# Altium footprint library CQFP_Sq_127P_Side_L.PcbLib: 8 footprints
Each footprint in its own frame and in the unit in brackets; x right, y up, seen from the top. Pads: shape width x height; smd on the part's side, far side on the other; paste and mask are expansions set on the pad; w line width, h text height; cw(c..) or ccw(c..) is an arc to the next point about the centre after c.
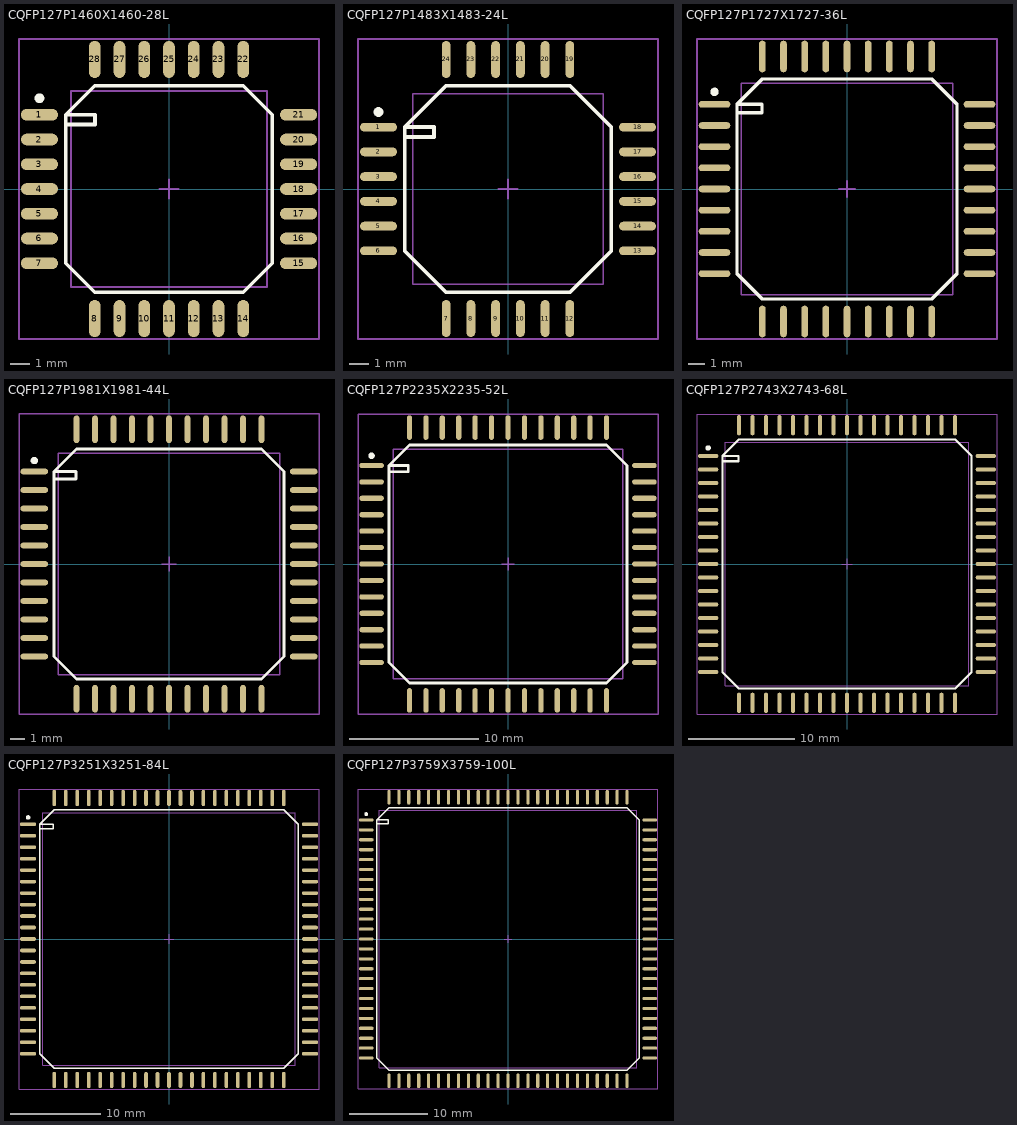
[diagram p0: the footprints below, top view; thin cyan lines are the x and y axes]

## CQFP127P1460X1460-28L [mm] "CQFP, 28-Leads, Body 10x10mm; Pitch 1.27mm, Gullwing Leadform, IPC High Density"
height 2.3
pads (28):
  oval 1.9x0.6 smd: 1(-6.65,3.81) 2(-6.65,2.54) 3(-6.65,1.27) 4(-6.65,0) 5(-6.65,-1.27) 6(-6.65,-2.54) 7(-6.65,-3.81) 15(6.65,-3.81) 16(6.65,-2.54) 17(6.65,-1.27) 18(6.65,0) 19(6.65,1.27) 20(6.65,2.54) 21(6.65,3.81)
  oval 0.6x1.9 smd: 8(-3.81,-6.65) 9(-2.54,-6.65) 10(-1.27,-6.65) 11(0,-6.65) 12(1.27,-6.65) 13(2.54,-6.65) 14(3.81,-6.65) 22(3.81,6.65) 23(2.54,6.65) 24(1.27,6.65) 25(0,6.65) 26(-1.27,6.65) 27(-2.54,6.65) 28(-3.81,6.65)
Top Overlay:
  circle w0.25: c-6.65,4.66 r0.125
  lines w0.2: -5.3,3.31 -3.8,3.31 -3.8,3.81 -5.3,3.81 ; -5.3,3.81 -3.81,5.3 3.81,5.3 5.3,3.81 5.3,-3.81 3.81,-5.3 -3.81,-5.3 -5.3,-3.81 -5.3,3.81
Mechanical 13:
  lines w0.1: -5.025,-5.025 5.025,-5.025 5.025,5.025 -5.025,5.025 -5.025,-5.025
Mechanical 15:
  lines w0.1: -0.5,0 0.5,0 ; 0,-0.5 0,0.5 ; -7.7,-7.7 7.7,-7.7 7.7,7.7 -7.7,7.7 -7.7,-7.7
3D body: height 2.3, standoff 0, extent -5.025,-5.025 5.025,5.025

## CQFP127P1483X1483-24L [mm] "CQFP, 24-Leads, Body 10x10mm; Pitch 1.27mm, Gullwing Leadform, IPC High Density"
height 2.2
pads (24):
  oval 1.9x0.45 smd: 1(-6.65,3.175) 2(-6.65,1.905) 3(-6.65,0.635) 4(-6.65,-0.635) 5(-6.65,-1.905) 6(-6.65,-3.175) 13(6.65,-3.175) 14(6.65,-1.905) 15(6.65,-0.635) 16(6.65,0.635) 17(6.65,1.905) 18(6.65,3.175)
  oval 0.45x1.9 smd: 7(-3.175,-6.65) 8(-1.905,-6.65) 9(-0.635,-6.65) 10(0.635,-6.65) 11(1.905,-6.65) 12(3.175,-6.65) 19(3.175,6.65) 20(1.905,6.65) 21(0.635,6.65) 22(-0.635,6.65) 23(-1.905,6.65) 24(-3.175,6.65)
Top Overlay:
  circle w0.25: c-6.65,3.95 r0.125
  lines w0.2: -5.3,2.675 -3.8,2.675 -3.8,3.175 -5.3,3.175 ; -5.3,3.175 -5.3,-3.175 -3.175,-5.3 3.175,-5.3 5.3,-3.175 5.3,3.175 3.175,5.3 -3.175,5.3 -5.3,3.175
Mechanical 13:
  lines w0.1: -4.89,-4.89 -4.89,4.89 4.89,4.89 4.89,-4.89 -4.89,-4.89
Mechanical 15:
  lines w0.1: -0.5,0 0.5,0 ; 0,-0.5 0,0.5 ; -7.7,-7.7 -7.7,7.7 7.7,7.7 7.7,-7.7 -7.7,-7.7
3D body: height 2.2, standoff 0, extent -4.89,-4.89 4.89,4.89

## CQFP127P1727X1727-36L [mm] "CQFP, 36-Leads, Body 12x12mm; Pitch 1.27mm, Gullwing Leadform, IPC High Density"
height 5
pads (36):
  oval 1.9x0.4 smd: 1(-7.95,5.08) 2(-7.95,3.81) 3(-7.95,2.54) 4(-7.95,1.27) 5(-7.95,0) 6(-7.95,-1.27) 7(-7.95,-2.54) 8(-7.95,-3.81) 9(-7.95,-5.08) 19(7.95,-5.08) 20(7.95,-3.81) 21(7.95,-2.54) 22(7.95,-1.27) 23(7.95,0) 24(7.95,1.27) 25(7.95,2.54) 26(7.95,3.81) 27(7.95,5.08)
  oval 0.4x1.9 smd: 10(-5.08,-7.95) 11(-3.81,-7.95) 12(-2.54,-7.95) 13(-1.27,-7.95) 14(0,-7.95) 15(1.27,-7.95) 16(2.54,-7.95) 17(3.81,-7.95) 18(5.08,-7.95) 28(5.08,7.95) 29(3.81,7.95) 30(2.54,7.95) 31(1.27,7.95) 32(0,7.95) 33(-1.27,7.95) 34(-2.54,7.95) 35(-3.81,7.95) 36(-5.08,7.95)
Top Overlay:
  circle w0.25: c-7.95,5.83 r0.125
  lines w0.2: -6.6,4.58 -5.1,4.58 -5.1,5.08 -6.6,5.08 ; -6.6,5.08 -5.08,6.6 5.08,6.6 6.6,5.08 6.6,-5.08 5.08,-6.6 -5.08,-6.6 -6.6,-5.08 -6.6,5.08
Mechanical 13:
  lines w0.1: -6.35,-6.35 6.35,-6.35 6.35,6.35 -6.35,6.35 -6.35,-6.35
Mechanical 15:
  lines w0.1: -0.5,0 0.5,0 ; 0,-0.5 0,0.5 ; -9,-9 9,-9 9,9 -9,9 -9,-9
3D body: height 5, standoff 0, extent -6.35,-6.35 6.35,6.35

## CQFP127P1981X1981-44L [mm] "CQFP, 44-Leads, Body 15x15mm; Pitch 1.27mm, Gullwing Leadform, IPC High Density"
height 5
pads (44):
  oval 1.9x0.4 smd: 1(-9.25,6.35) 2(-9.25,5.08) 3(-9.25,3.81) 4(-9.25,2.54) 5(-9.25,1.27) 6(-9.25,0) 7(-9.25,-1.27) 8(-9.25,-2.54) 9(-9.25,-3.81) 10(-9.25,-5.08) 11(-9.25,-6.35) 23(9.25,-6.35) 24(9.25,-5.08) 25(9.25,-3.81) 26(9.25,-2.54) 27(9.25,-1.27) 28(9.25,0) 29(9.25,1.27) 30(9.25,2.54) 31(9.25,3.81) 32(9.25,5.08) 33(9.25,6.35)
  oval 0.4x1.9 smd: 12(-6.35,-9.25) 13(-5.08,-9.25) 14(-3.81,-9.25) 15(-2.54,-9.25) 16(-1.27,-9.25) 17(0,-9.25) 18(1.27,-9.25) 19(2.54,-9.25) 20(3.81,-9.25) 21(5.08,-9.25) 22(6.35,-9.25) 34(6.35,9.25) 35(5.08,9.25) 36(3.81,9.25) 37(2.54,9.25) 38(1.27,9.25) 39(0,9.25) 40(-1.27,9.25) 41(-2.54,9.25) 42(-3.81,9.25) 43(-5.08,9.25) 44(-6.35,9.25)
Top Overlay:
  circle w0.25: c-9.25,7.1 r0.125
  lines w0.2: -7.9,5.85 -6.4,5.85 -6.4,6.35 -7.9,6.35 ; -7.9,6.35 -6.35,7.9 6.35,7.9 7.9,6.35 7.9,-6.35 6.35,-7.9 -6.35,-7.9 -7.9,-6.35 -7.9,6.35
Mechanical 13:
  lines w0.1: -7.62,-7.62 7.62,-7.62 7.62,7.62 -7.62,7.62 -7.62,-7.62
Mechanical 15:
  lines w0.1: -0.5,0 0.5,0 ; 0,-0.5 0,0.5 ; -10.3,-10.3 10.3,-10.3 10.3,10.3 -10.3,10.3 -10.3,-10.3
3D body: height 5, standoff 0, extent -7.62,-7.62 7.62,7.62

## CQFP127P2235X2235-52L [mm] "CQFP, 52-Leads, Body 17x17mm; Pitch 1.27mm, Gullwing Leadform, IPC High Density"
height 5
pads (52):
  oval 1.9x0.4 smd: 1(-10.55,7.62) 2(-10.55,6.35) 3(-10.55,5.08) 4(-10.55,3.81) 5(-10.55,2.54) 6(-10.55,1.27) 7(-10.55,0) 8(-10.55,-1.27) 9(-10.55,-2.54) 10(-10.55,-3.81) 11(-10.55,-5.08) 12(-10.55,-6.35) 13(-10.55,-7.62) 27(10.55,-7.62) 28(10.55,-6.35) 29(10.55,-5.08) 30(10.55,-3.81) 31(10.55,-2.54) 32(10.55,-1.27) 33(10.55,0) 34(10.55,1.27) 35(10.55,2.54) 36(10.55,3.81) 37(10.55,5.08) 38(10.55,6.35) 39(10.55,7.62)
  oval 0.4x1.9 smd: 14(-7.62,-10.55) 15(-6.35,-10.55) 16(-5.08,-10.55) 17(-3.81,-10.55) 18(-2.54,-10.55) 19(-1.27,-10.55) 20(0,-10.55) 21(1.27,-10.55) 22(2.54,-10.55) 23(3.81,-10.55) 24(5.08,-10.55) 25(6.35,-10.55) 26(7.62,-10.55) 40(7.62,10.55) 41(6.35,10.55) 42(5.08,10.55) 43(3.81,10.55) 44(2.54,10.55) 45(1.27,10.55) 46(0,10.55) 47(-1.27,10.55) 48(-2.54,10.55) 49(-3.81,10.55) 50(-5.08,10.55) 51(-6.35,10.55) 52(-7.62,10.55)
Top Overlay:
  circle w0.25: c-10.55,8.37 r0.125
  lines w0.2: -9.2,7.12 -7.7,7.12 -7.7,7.62 -9.2,7.62 ; -9.2,7.62 -7.62,9.2 7.62,9.2 9.2,7.62 9.2,-7.62 7.62,-9.2 -7.62,-9.2 -9.2,-7.62 -9.2,7.62
Mechanical 13:
  lines w0.1: -8.89,-8.89 8.89,-8.89 8.89,8.89 -8.89,8.89 -8.89,-8.89
Mechanical 15:
  lines w0.1: -0.5,0 0.5,0 ; 0,-0.5 0,0.5 ; -11.6,-11.6 11.6,-11.6 11.6,11.6 -11.6,11.6 -11.6,-11.6
3D body: height 5, standoff 0, extent -8.89,-8.89 8.89,8.89

## CQFP127P2743X2743-68L [mm] "CQFP, 68-Leads, Body 22x22mm; Pitch 1.27mm, Gullwing Leadform, IPC High Density"
height 5
pads (68):
  oval 1.9x0.4 smd: 1(-13.05,10.16) 2(-13.05,8.89) 3(-13.05,7.62) 4(-13.05,6.35) 5(-13.05,5.08) 6(-13.05,3.81) 7(-13.05,2.54) 8(-13.05,1.27) 9(-13.05,0) 10(-13.05,-1.27) 11(-13.05,-2.54) 12(-13.05,-3.81) 13(-13.05,-5.08) 14(-13.05,-6.35) 15(-13.05,-7.62) 16(-13.05,-8.89) 17(-13.05,-10.16) 35(13.05,-10.16) 36(13.05,-8.89) 37(13.05,-7.62) 38(13.05,-6.35) 39(13.05,-5.08) 40(13.05,-3.81) 41(13.05,-2.54) 42(13.05,-1.27) 43(13.05,0) 44(13.05,1.27) 45(13.05,2.54) 46(13.05,3.81) 47(13.05,5.08) 48(13.05,6.35) 49(13.05,7.62) 50(13.05,8.89) 51(13.05,10.16)
  oval 0.4x1.9 smd: 18(-10.16,-13.05) 19(-8.89,-13.05) 20(-7.62,-13.05) 21(-6.35,-13.05) 22(-5.08,-13.05) 23(-3.81,-13.05) 24(-2.54,-13.05) 25(-1.27,-13.05) 26(0,-13.05) 27(1.27,-13.05) 28(2.54,-13.05) 29(3.81,-13.05) 30(5.08,-13.05) 31(6.35,-13.05) 32(7.62,-13.05) 33(8.89,-13.05) 34(10.16,-13.05) 52(10.16,13.05) 53(8.89,13.05) 54(7.62,13.05) 55(6.35,13.05) 56(5.08,13.05) 57(3.81,13.05) 58(2.54,13.05) 59(1.27,13.05) 60(0,13.05) 61(-1.27,13.05) 62(-2.54,13.05) 63(-3.81,13.05) 64(-5.08,13.05) 65(-6.35,13.05) 66(-7.62,13.05) 67(-8.89,13.05) 68(-10.16,13.05)
Top Overlay:
  circle w0.25: c-13.05,10.91 r0.125
  lines w0.2: -11.7,9.66 -10.2,9.66 -10.2,10.16 -11.7,10.16 ; -11.7,10.16 -10.16,11.7 10.16,11.7 11.7,10.16 11.7,-10.16 10.16,-11.7 -10.16,-11.7 -11.7,-10.16 -11.7,10.16
Mechanical 13:
  lines w0.1: -11.43,-11.43 11.43,-11.43 11.43,11.43 -11.43,11.43 -11.43,-11.43
Mechanical 15:
  lines w0.1: -0.5,0 0.5,0 ; 0,-0.5 0,0.5 ; -14.1,-14.1 14.1,-14.1 14.1,14.1 -14.1,14.1 -14.1,-14.1
3D body: height 5, standoff 0, extent -11.43,-11.43 11.43,11.43

## CQFP127P3251X3251-84L [mm] "CQFP, 84-Leads, Body 27x27mm; Pitch 1.27mm, Gullwing Leadform, IPC High Density"
height 5
pads (84):
  oval 1.8x0.4 smd: 1(-15.6,12.7) 2(-15.6,11.43) 3(-15.6,10.16) 4(-15.6,8.89) 5(-15.6,7.62) 6(-15.6,6.35) 7(-15.6,5.08) 8(-15.6,3.81) 9(-15.6,2.54) 10(-15.6,1.27) 11(-15.6,0) 12(-15.6,-1.27) 13(-15.6,-2.54) 14(-15.6,-3.81) 15(-15.6,-5.08) 16(-15.6,-6.35) 17(-15.6,-7.62) 18(-15.6,-8.89) 19(-15.6,-10.16) 20(-15.6,-11.43) 21(-15.6,-12.7) 43(15.6,-12.7) 44(15.6,-11.43) 45(15.6,-10.16) 46(15.6,-8.89) 47(15.6,-7.62) 48(15.6,-6.35) 49(15.6,-5.08) 50(15.6,-3.81) 51(15.6,-2.54) 52(15.6,-1.27) 53(15.6,0) 54(15.6,1.27) 55(15.6,2.54) 56(15.6,3.81) 57(15.6,5.08) 58(15.6,6.35) 59(15.6,7.62) 60(15.6,8.89) 61(15.6,10.16) 62(15.6,11.43) 63(15.6,12.7)
  oval 0.4x1.8 smd: 22(-12.7,-15.6) 23(-11.43,-15.6) 24(-10.16,-15.6) 25(-8.89,-15.6) 26(-7.62,-15.6) 27(-6.35,-15.6) 28(-5.08,-15.6) 29(-3.81,-15.6) 30(-2.54,-15.6) 31(-1.27,-15.6) 32(0,-15.6) 33(1.27,-15.6) 34(2.54,-15.6) 35(3.81,-15.6) 36(5.08,-15.6) 37(6.35,-15.6) 38(7.62,-15.6) 39(8.89,-15.6) 40(10.16,-15.6) 41(11.43,-15.6) 42(12.7,-15.6) 64(12.7,15.6) 65(11.43,15.6) 66(10.16,15.6) 67(8.89,15.6) 68(7.62,15.6) 69(6.35,15.6) 70(5.08,15.6) 71(3.81,15.6) 72(2.54,15.6) 73(1.27,15.6) 74(0,15.6) 75(-1.27,15.6) 76(-2.54,15.6) 77(-3.81,15.6) 78(-5.08,15.6) 79(-6.35,15.6) 80(-7.62,15.6) 81(-8.89,15.6) 82(-10.16,15.6) 83(-11.43,15.6) 84(-12.7,15.6)
Top Overlay:
  circle w0.25: c-15.6,13.45 r0.125
  lines w0.2: -14.3,12.2 -12.8,12.2 -12.8,12.7 -14.3,12.7 ; -14.3,12.7 -12.7,14.3 12.7,14.3 14.3,12.7 14.3,-12.7 12.7,-14.3 -12.7,-14.3 -14.3,-12.7 -14.3,12.7
Mechanical 13:
  lines w0.1: -13.97,-13.97 13.97,-13.97 13.97,13.97 -13.97,13.97 -13.97,-13.97
Mechanical 15:
  lines w0.1: -0.5,0 0.5,0 ; 0,-0.5 0,0.5 ; -16.6,-16.6 16.6,-16.6 16.6,16.6 -16.6,16.6 -16.6,-16.6
3D body: height 5, standoff 0, extent -13.97,-13.97 13.97,13.97

## CQFP127P3759X3759-100L [mm] "CQFP, 100-Leads, Body 33x33mm; Pitch 1.27mm, Gullwing Leadform, IPC High Density"
height 5
pads (100):
  oval 1.9x0.4 smd: 1(-18.15,15.24) 2(-18.15,13.97) 3(-18.15,12.7) 4(-18.15,11.43) 5(-18.15,10.16) 6(-18.15,8.89) 7(-18.15,7.62) 8(-18.15,6.35) 9(-18.15,5.08) 10(-18.15,3.81) 11(-18.15,2.54) 12(-18.15,1.27) 13(-18.15,0) 14(-18.15,-1.27) 15(-18.15,-2.54) 16(-18.15,-3.81) 17(-18.15,-5.08) 18(-18.15,-6.35) 19(-18.15,-7.62) 20(-18.15,-8.89) 21(-18.15,-10.16) 22(-18.15,-11.43) 23(-18.15,-12.7) 24(-18.15,-13.97) 25(-18.15,-15.24) 51(18.15,-15.24) 52(18.15,-13.97) 53(18.15,-12.7) 54(18.15,-11.43) 55(18.15,-10.16) 56(18.15,-8.89) 57(18.15,-7.62) 58(18.15,-6.35) 59(18.15,-5.08) 60(18.15,-3.81) 61(18.15,-2.54) 62(18.15,-1.27) 63(18.15,0) 64(18.15,1.27) 65(18.15,2.54) 66(18.15,3.81) 67(18.15,5.08) 68(18.15,6.35) 69(18.15,7.62) 70(18.15,8.89) 71(18.15,10.16) 72(18.15,11.43) 73(18.15,12.7) 74(18.15,13.97) 75(18.15,15.24)
  oval 0.4x1.9 smd: 26(-15.24,-18.15) 27(-13.97,-18.15) 28(-12.7,-18.15) 29(-11.43,-18.15) 30(-10.16,-18.15) 31(-8.89,-18.15) 32(-7.62,-18.15) 33(-6.35,-18.15) 34(-5.08,-18.15) 35(-3.81,-18.15) 36(-2.54,-18.15) 37(-1.27,-18.15) 38(0,-18.15) 39(1.27,-18.15) 40(2.54,-18.15) 41(3.81,-18.15) 42(5.08,-18.15) 43(6.35,-18.15) 44(7.62,-18.15) 45(8.89,-18.15) 46(10.16,-18.15) 47(11.43,-18.15) 48(12.7,-18.15) 49(13.97,-18.15) 50(15.24,-18.15) 76(15.24,18.15) 77(13.97,18.15) 78(12.7,18.15) 79(11.43,18.15) 80(10.16,18.15) 81(8.89,18.15) 82(7.62,18.15) 83(6.35,18.15) 84(5.08,18.15) 85(3.81,18.15) 86(2.54,18.15) 87(1.27,18.15) 88(0,18.15) 89(-1.27,18.15) 90(-2.54,18.15) 91(-3.81,18.15) 92(-5.08,18.15) 93(-6.35,18.15) 94(-7.62,18.15) 95(-8.89,18.15) 96(-10.16,18.15) 97(-11.43,18.15) 98(-12.7,18.15) 99(-13.97,18.15) 100(-15.24,18.15)
Top Overlay:
  circle w0.25: c-18.15,15.99 r0.125
  lines w0.2: -16.8,14.74 -15.3,14.74 -15.3,15.24 -16.8,15.24 ; -16.8,15.24 -16.8,-15.24 -15.24,-16.8 15.24,-16.8 16.8,-15.24 16.8,15.24 15.24,16.8 -15.24,16.8 -16.8,15.24
Mechanical 13:
  lines w0.1: -16.51,-16.51 -16.51,16.51 16.51,16.51 16.51,-16.51 -16.51,-16.51
Mechanical 15:
  lines w0.1: -0.5,0 0.5,0 ; 0,-0.5 0,0.5 ; -19.2,-19.2 -19.2,19.2 19.2,19.2 19.2,-19.2 -19.2,-19.2
3D body: height 5, standoff 0, extent -16.51,-16.51 16.51,16.51